# EAGLE library part 74*4002 (library 74ttl-din)
Dual 4-input NOR
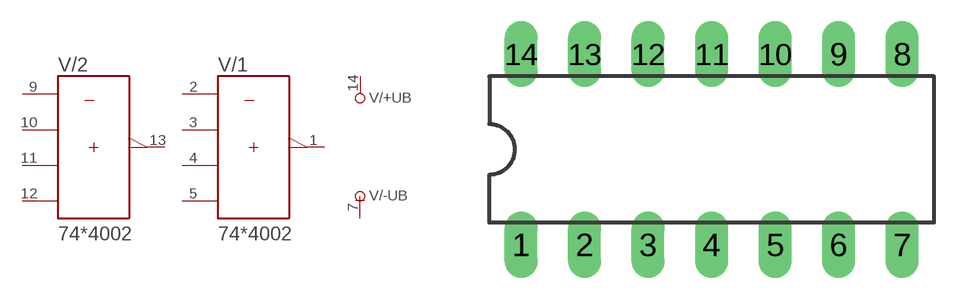
[diagram p149: symbol with the pads of DIL14; footprint DIL14]

Designator prefix V; gates /+UB=+UB /-UB=-UB /1=4002 /2=4002

## 744002N  [DIL14]
1  /1:Y  out
2  /1:A  in
3  /1:B  in
4  /1:C  in
5  /1:D  in
7  /-UB:-UB  pwr
9  /2:A  in
10  /2:B  in
11  /2:C  in
12  /2:D  in
13  /2:Y  out
14  /+UB:+UB  pwr

## Footprint DIL14 (pad centres in mm)
Dual In Line Package
drill 0.813 long: 1 -7.62,-3.81; 2 -5.08,-3.81; 3 -2.54,-3.81; 4 0,-3.81; 5 2.54,-3.81; 6 5.08,-3.81; 7 7.62,-3.81; 8 7.62,3.81; 9 5.08,3.81; 10 2.54,3.81; 11 0,3.81; 12 -2.54,3.81; 13 -5.08,3.81; 14 -7.62,3.81